# Altium schematic symbol library 液晶.SchLib: 5 symbols
Pins are listed as number, name and electrical type; pins without a type are passive.

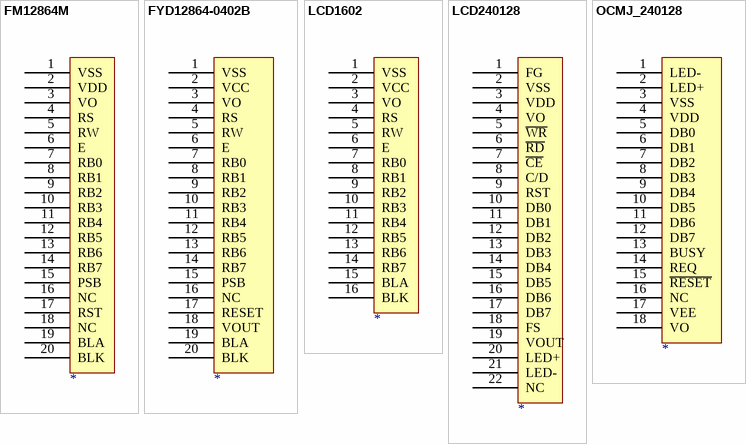
[diagram p0: symbols FM12864M to OCMJ_240128]

## FM12864M
designator ?
pins: 1 VSS, 2 VDD, 3 VO, 4 RS, 5 RW, 6 E, 7 RB0, 8 RB1, 9 RB2, 10 RB3, 11 RB4, 12 RB5, 13 RB6, 14 RB7, 15 PSB, 16 NC, 17 RST, 18 NC, 19 BLA, 20 BLK

## FYD12864-0402B
designator ?
pins: 1 VSS, 2 VCC, 3 VO, 4 RS, 5 RW, 6 E, 7 RB0, 8 RB1, 9 RB2, 10 RB3, 11 RB4, 12 RB5, 13 RB6, 14 RB7, 15 PSB, 16 NC, 17 RESET, 18 VOUT, 19 BLA, 20 BLK

## LCD1602
designator ?
pins: 1 VSS, 2 VCC, 3 VO, 4 RS, 5 RW, 6 E, 7 RB0, 8 RB1, 9 RB2, 10 RB3, 11 RB4, 12 RB5, 13 RB6, 14 RB7, 15 BLA, 16 BLK

## LCD240128
designator ?
pins: 1 FG, 2 VSS, 3 VDD, 4 VO, 5 ~{WR}, 6 ~{RD}, 7 ~{CE}, 8 C/D, 9 RST, 10 DB0, 11 DB1, 12 DB2, 13 DB3, 14 DB4, 15 DB5, 16 DB6, 17 DB7, 18 FS, 19 VOUT, 20 LED+, 21 LED-, 22 NC

## OCMJ_240128
designator ?
pins: 1 LED-, 2 LED+, 3 VSS, 4 VDD, 5 DB0, 6 DB1, 7 DB2, 8 DB3, 9 DB4, 10 DB5, 11 DB6, 12 DB7, 13 BUSY, 14 REQ, 15 ~{RESET}, 16 NC, 17 VEE, 18 VO